# EAGLE library part SAM-M8Q (library SAM-M8Q)
u-blox SAM GNSS antenna module
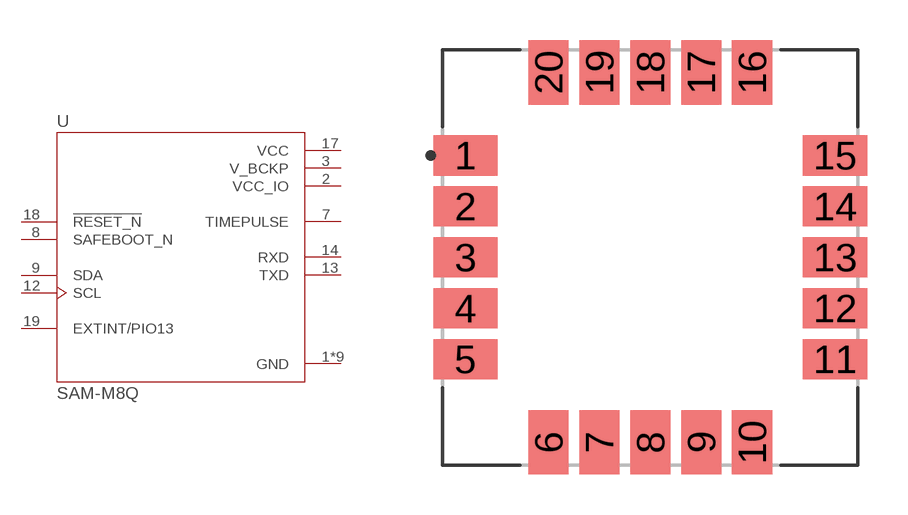
[diagram p0: symbol with the pads of XCVR_SAM-M8Q; footprint XCVR_SAM-M8Q]

Designator prefix U

## SAM-M8Q (AVAILABILITY: Unavailable; DESCRIPTION: SAM-M8Q RF Receiver Galileo, GLONASS, GPS 1.575GHz, 1.602GHz -165dBm 400kbps; MF: U-Blox America; MP: SAM-M8Q; PACKAGE: SMD-20 U-Blox America; PRICE: None)  [XCVR_SAM-M8Q]
1  GND  pwr
2  VCC_IO  pwr
3  V_BCKP  pwr
4  GND  pwr
5  GND  pwr
6  GND  pwr
7  TIMEPULSE  out
8  SAFEBOOT_N  in
9  SDA
10  GND  pwr
11  GND  pwr
12  SCL  in
13  TXD  out
14  RXD  in
15  GND  pwr
16  GND  pwr
17  VCC  pwr
18  !RESET_N  in
19  EXTINT/PIO13  in
20  GND  pwr

## Footprint XCVR_SAM-M8Q (pad centres in mm)
smd 2.4 x 1.5: 1 -6.9,3.8; 2 -6.9,1.9; 3 -6.9,0; 4 -6.9,-1.9; 5 -6.9,-3.8; 11 6.9,-3.8; 12 6.9,-1.9; 13 6.9,0; 14 6.9,1.9; 15 6.9,3.8
smd 1.5 x 2.4: 6 -3.8,-6.9; 7 -1.9,-6.9; 8 0,-6.9; 9 1.9,-6.9; 10 3.8,-6.9; 16 3.8,6.9; 17 1.9,6.9; 18 0,6.9; 19 -1.9,6.9; 20 -3.8,6.9